# Altium schematic symbol library SCH - MCU - NUVOTON - NUVOTON M031BTYD2AN.SchLib: 1 symbol
Pins are listed as number, name and electrical type; pins without a type are passive.

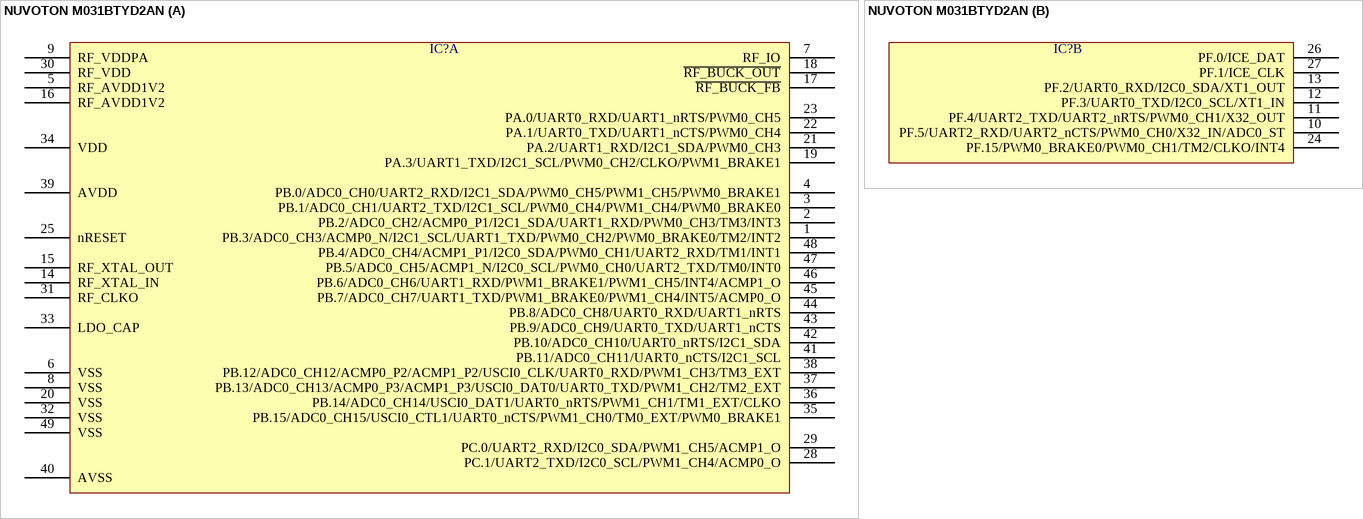
[diagram p0: symbol NUVOTON M031BTYD2AN]

## NUVOTON M031BTYD2AN
designator IC?  (value not drawn)
part A pins: 1 PB.3/ADC0_CH3/ACMP0_N/I2C1_SCL/UART1_TXD/PWM0_CH2/PWM0_BRAKE0/TM2/INT2, 2 PB.2/ADC0_CH2/ACMP0_P1/I2C1_SDA/UART1_RXD/PWM0_CH3/TM3/INT3, 3 PB.1/ADC0_CH1/UART2_TXD/I2C1_SCL/PWM0_CH4/PWM1_CH4/PWM0_BRAKE0, 4 PB.0/ADC0_CH0/UART2_RXD/I2C1_SDA/PWM0_CH5/PWM1_CH5/PWM0_BRAKE1, 5 RF_AVDD1V2, 6 VSS, 7 RF_IO, 8 VSS, 9 RF_VDDPA, 14 RF_XTAL_IN, 15 RF_XTAL_OUT, 16 RF_AVDD1V2, 17 ~{RF_BUCK_FB}, 18 ~{RF_BUCK_OUT}, 19 PA.3/UART1_TXD/I2C1_SCL/PWM0_CH2/CLKO/PWM1_BRAKE1, 20 VSS, 21 PA.2/UART1_RXD/I2C1_SDA/PWM0_CH3, 22 PA.1/UART0_TXD/UART1_nCTS/PWM0_CH4, 23 PA.0/UART0_RXD/UART1_nRTS/PWM0_CH5, 25 nRESET, 28 PC.1/UART2_TXD/I2C0_SCL/PWM1_CH4/ACMP0_O, 29 PC.0/UART2_RXD/I2C0_SDA/PWM1_CH5/ACMP1_O, 30 RF_VDD, 31 RF_CLKO, 32 VSS, 33 LDO_CAP, 34 VDD, 35 PB.15/ADC0_CH15/USCI0_CTL1/UART0_nCTS/PWM1_CH0/TM0_EXT/PWM0_BRAKE1, 36 PB.14/ADC0_CH14/USCI0_DAT1/UART0_nRTS/PWM1_CH1/TM1_EXT/CLKO, 37 PB.13/ADC0_CH13/ACMP0_P3/ACMP1_P3/USCI0_DAT0/UART0_TXD/PWM1_CH2/TM2_EXT, 38 PB.12/ADC0_CH12/ACMP0_P2/ACMP1_P2/USCI0_CLK/UART0_RXD/PWM1_CH3/TM3_EXT, 39 AVDD, 40 AVSS, 41 PB.11/ADC0_CH11/UART0_nCTS/I2C1_SCL, 42 PB.10/ADC0_CH10/UART0_nRTS/I2C1_SDA, 43 PB.9/ADC0_CH9/UART0_TXD/UART1_nCTS, 44 PB.8/ADC0_CH8/UART0_RXD/UART1_nRTS, 45 PB.7/ADC0_CH7/UART1_TXD/PWM1_BRAKE0/PWM1_CH4/INT5/ACMP0_O, 46 PB.6/ADC0_CH6/UART1_RXD/PWM1_BRAKE1/PWM1_CH5/INT4/ACMP1_O, 47 PB.5/ADC0_CH5/ACMP1_N/I2C0_SCL/PWM0_CH0/UART2_TXD/TM0/INT0, 48 PB.4/ADC0_CH4/ACMP1_P1/I2C0_SDA/PWM0_CH1/UART2_RXD/TM1/INT1, 49 VSS
part B pins: 10 PF.5/UART2_RXD/UART2_nCTS/PWM0_CH0/X32_IN/ADC0_ST, 11 PF.4/UART2_TXD/UART2_nRTS/PWM0_CH1/X32_OUT, 12 PF.3/UART0_TXD/I2C0_SCL/XT1_IN, 13 PF.2/UART0_RXD/I2C0_SDA/XT1_OUT, 24 PF.15/PWM0_BRAKE0/PWM0_CH1/TM2/CLKO/INT4, 26 PF.0/ICE_DAT, 27 PF.1/ICE_CLK